# Altium footprint library ADXL345.PcbLib: 1 footprints
Each footprint in its own frame and in the unit in brackets; x right, y up, seen from the top. Pads: shape width x height; smd on the part's side, far side on the other; paste and mask are expansions set on the pad; w line width, h text height; cw(c..) or ccw(c..) is an arc to the next point about the centre after c.
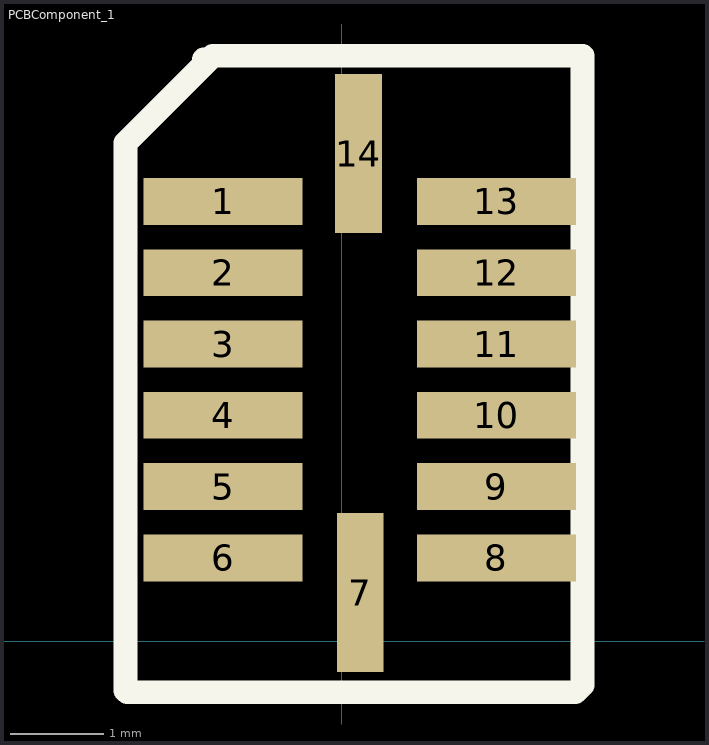
[diagram p0: the footprint, top view; thin cyan lines are the x and y axes]

## PCBComponent_1 [mm]
pads (14):
  rect 1.7x0.5 smd: 1(-1.27,4.699) 2(-1.27,3.937) 3(-1.27,3.175) 4(-1.27,2.413) 5(-1.27,1.651) 6(-1.27,0.889) 8(1.651,0.889) 9(1.651,1.651) 10(1.651,2.413) 11(1.651,3.175) 12(1.651,3.937) 13(1.651,4.699)
  rect 0.5x1.7 smd: 7(0.195,0.518) 14(0.176,5.21)
Top Overlay:
  lines w0.254: -2.198,5.438 -1.476,6.16 -1.476,6.217 ; 2.532,6.255 -1.381,6.255 -2.312,5.324 -2.312,-0.527 -2.293,-0.546 2.494,-0.546 2.57,-0.47 2.57,6.255